# Altium schematic symbol library Inductor.Schlib: 5 symbols
Pins are listed as number, name and electrical type; pins without a type are passive.

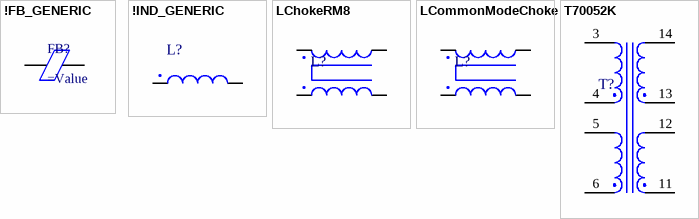
[diagram p0: symbols !FB_GENERIC to T70052K]

## !FB_GENERIC
designator FB?
pins: 1, 2

## !IND_GENERIC
designator L?
pins: 1, 2

## LChokeRM8
designator L?
pins: 2, 5, 8, 11 2

## LCommonModeChoke
designator L?
pins: 1, 2, 3, 4

## T70052K
designator T?
pins: 3, 4, 5, 6, 11, 12, 13, 14